# Altium footprint library CAP_INDUCTOR.PcbLib: 5 footprints
Each footprint in its own frame and in the unit in brackets; x right, y up, seen from the top. Pads: shape width x height; smd on the part's side, far side on the other; paste and mask are expansions set on the pad; w line width, h text height; cw(c..) or ccw(c..) is an arc to the next point about the centre after c.
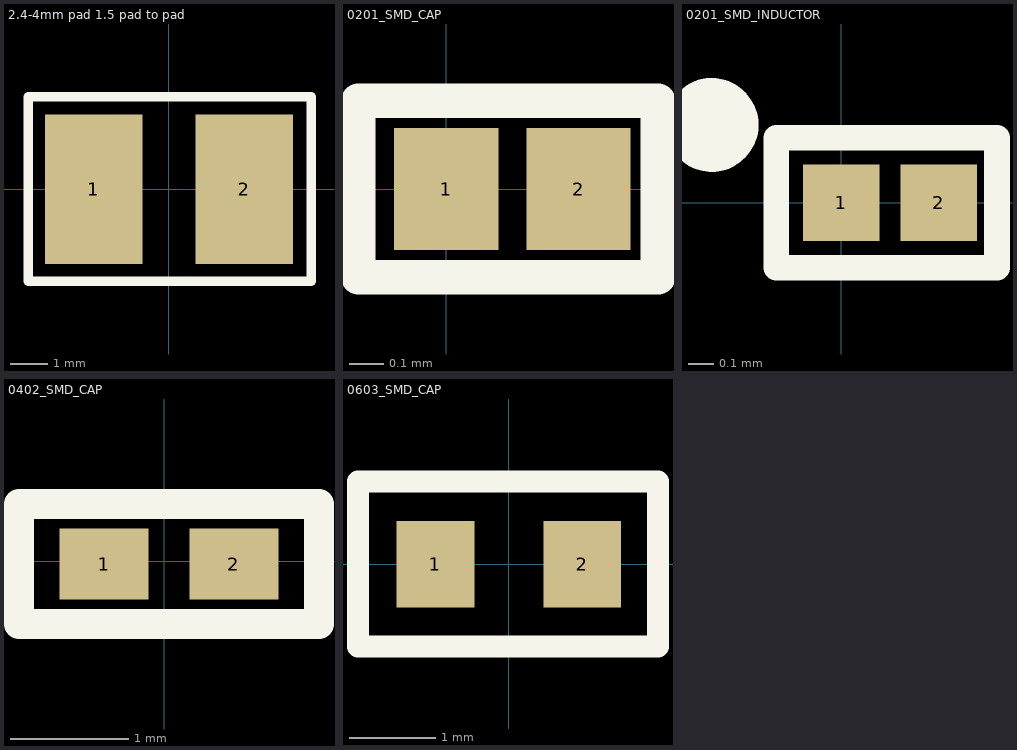
[diagram p0: the footprints below, top view; thin cyan lines are the x and y axes]

## 2.4-4mm pad 1.5 pad to pad [mm]
pads (2):
  rect 2.6x4 smd: 1(-2.01,0) 2(2.01,0)
Top Overlay:
  lines w0.254: -3.763,-2.455 -3.763,2.475 3.797,2.475 3.797,-2.455 -3.763,-2.455
3D body "vls5030ex-d.step": height 2.93, standoff -0.08, extent -2.523,-2.5 2.777,2.5

## 0201_SMD_CAP [mm]
pads (2):
  rect 0.3x0.35 smd: 1(0,0) 2(0.381,0)
Top Overlay:
  lines w0.1: -0.254,-0.254 0.61,-0.254 0.61,0.254 -0.254,0.254 -0.254,-0.254
3D body "02016C332KAT2A.STEP": height 0.3, standoff 0, extent -0.122,-0.178 0.478,0.152

## 0201_SMD_INDUCTOR [mm]
pads (2):
  rect 0.3x0.3 smd: 1(0,0) 2(0.381,0)
Top Overlay:
  circle w0.254: c-0.508,0.305 r0.057
  lines w0.1: -0.254,-0.254 -0.254,0.254 0.61,0.254 0.61,-0.254 -0.254,-0.254
3D body "MLG0603P2N0BT000.stp": height 0.3, standoff 0, extent -0.122,-0.15 0.478,0.15

## 0402_SMD_CAP [mm]
pads (2):
  rect 0.75x0.6 smd: 1(-0.508,-0.025) 2(0.592,-0.025)
Top Overlay:
  lines w0.254: -1.228,-0.533 1.312,-0.533 1.312,0.483 -1.228,0.483 -1.228,-0.533
Mechanical 20:
  lines w0.05: -1.133,-0.575 -1.133,0.525 1.217,0.525 1.217,-0.575 -1.133,-0.575
3D body "GRM1555C1HR80BA01D.stp": height 0.55, standoff 0.05, extent -0.458,-0.275 0.542,0.225

## 0603_SMD_CAP [mm]
pads (2):
  rect 0.9x1 smd paste-2539.97: 1(-0.85,0) 2(0.85,0)
Top Overlay:
  lines w0.254: -1.747,-0.951 1.726,-0.951 1.726,0.96 -1.747,0.96 -1.747,-0.951
Top Paste:
  region: -1.3,-0.5 -1.3,0.5 -0.4,0.5 -0.4,-0.5
  region: 0.4,-0.5 0.4,0.5 1.3,0.5 1.3,-0.5
3D body "GA0603Y102KXCAP31G.STEP": height 0.8, standoff 0, extent -0.725,-0.475 0.875,0.495